# Altium footprint library Footprints.PcbLib: 2 footprints
Each footprint in its own frame and in the unit in brackets; x right, y up, seen from the top. Pads: shape width x height; smd on the part's side, far side on the other; paste and mask are expansions set on the pad; w line width, h text height; cw(c..) or ccw(c..) is an arc to the next point about the centre after c.
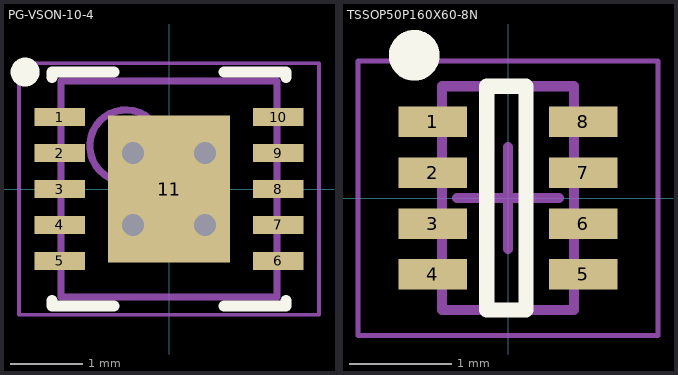
[diagram p0: the footprints below, top view; thin cyan lines are the x and y axes]

## PG-VSON-10-4 [mm] "SON, 10-Leads, Body 3,00x3,00mm, Pitch 0,50mm, Thermal Pad 2,05x1,70mm, IPC Medium Density"
height 0.9
pads (11):
  rect 0.7x0.25 smd mask+0.05: 1(-1.52,1) 2(-1.52,0.5) 3(-1.52,0) 4(-1.52,-0.5) 5(-1.52,-1) 6(1.52,-1) 7(1.52,-0.5) 8(1.52,0) 9(1.52,0.5) 10(1.52,1)
  rect 1.7x2.05 smd mask+0.05: 11(0,0)
via 0.5,0.5 diameter 0.6 hole 0.3
via -0.5,0.5 diameter 0.6 hole 0.3
via -0.5,-0.5 diameter 0.6 hole 0.3
via 0.5,-0.5 diameter 0.6 hole 0.3
Top Overlay:
  circle w0.3: c-2,1.625 r0.05
  lines w0.15: -1.625,-1.55 -1.625,-1.625 -0.765,-1.625 ; -1.625,1.55 -1.625,1.625 -0.765,1.625 ; 0.765,-1.625 1.625,-1.625 1.625,-1.55 ; 0.765,1.625 1.625,1.625 1.625,1.55
Top Assembly:
  circle w0.1: c-0.6,0.6 r0.5
  lines w0.1: -1.5,-1.5 -1.5,1.5 1.5,1.5 1.5,-1.5 -1.5,-1.5
Top Courtyard:
  lines w0.05: -2.085,-1.75 -2.085,1.75 2.085,1.75 2.085,-1.75 -2.085,-1.75
  lines w0.1: -0.5,0 0.5,0 ; 0,-0.5 0,0.5
3D body "PG-VSON-10-4.step": height 0.9, standoff 0, extent -1.5,-1.5 1.5,1.5

## TSSOP50P160X60-8N [mm] "TSSOP, 8-Leads, Body 2,10x1,20mm, Pitch 0,50mm, IPC Medium Density"
height 0.6
pads (8):
  rect 0.67x0.3 smd mask+0.05: 1(-0.74,0.75) 2(-0.74,0.25) 3(-0.74,-0.25) 4(-0.74,-0.75) 5(0.74,-0.75) 6(0.74,-0.25) 7(0.74,0.25) 8(0.74,0.75)
Top Overlay:
  circle w0.25: c-0.922,1.404 r0.125
  lines w0.15: -0.209,-1.1 0.177,-1.1 0.177,1.1 -0.209,1.1 -0.209,-1.1
Top Assembly:
  lines w0.1: -0.65,-1.1 0.65,-1.1 0.65,1.1 -0.65,1.1 -0.65,-1.1
Top Courtyard:
  lines w0.05: -1.475,-1.35 1.475,-1.35 1.475,1.35 -1.475,1.35 -1.475,-1.35
  lines w0.1: -0.5,0 0.5,0 ; 0,-0.5 0,0.5
3D body: height 0.6, standoff 0, extent -0.647,-1.098 0.647,1.101